# Altium schematic symbol library opto_0.Schlib: 1 symbol
Pins are listed as number, name and electrical type; pins without a type are passive.

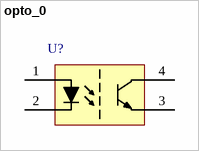
[diagram p0: symbol opto_0]

## opto_0
designator U?  (value not drawn)
Generic 4-Pin Opto-Coupler
pins: 1 A, 2 A, 3 E, 4 C